# EAGLE library part 1X7 (library LARS_409_CONNECTORS)
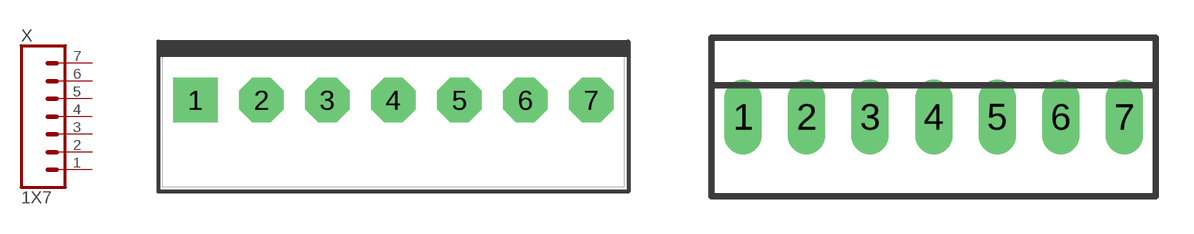
[diagram p1: symbol with the pads of JST-B7P-VH; footprints JST-B7P-VH, MOLEX-07]

Designator prefix X

## 1X7B7P-VH  [JST-B7P-VH]
1  1  pas
2  2  pas
3  3  pas
4  4  pas
5  5  pas
6  6  pas
7  7  pas

## 1X7MOLEX-07  [MOLEX-07]
Pads as for JST-B7P-VH

## 1X7JST-XH-07  [JST-XH-07]
Pads as for JST-B7P-VH

## 1X7WF-2  [WF-7]
P$1  1  pas
P$2  2  pas
P$3  3  pas
P$4  4  pas
P$5  5  pas
P$6  6  pas
P$7  7  pas

## 1X7DUPON  [1X07DUPON]
Pads as for JST-B7P-VH

## 1X7PLS2-7  [PLS2-7]
Pads as for WF-7

## 1X7FFC  [FFC-1MM_7]
Pads as for JST-B7P-VH

## Footprint JST-B7P-VH (pad centres in mm)
HEADER
drill 1.778 square: 1 -11.88,0
drill 1.778 octagon: 2 -7.92,0; 3 -3.96,0; 4 0,0; 5 3.96,0; 6 7.92,0; 7 11.88,0

## Footprint MOLEX-07 (pad centres in mm)
KK® 254 Solid Header, Vertical, with Friction Lock, 7 Circuits, Tin (Sn) Plating Datasheet <http://www.molex.com/pdm_docs/sd/022232071_sd.pdf>
drill 1 long: 1 -7.62,0; 2 -5.08,0; 3 -2.54,0; 4 0,0; 5 2.54,0; 6 5.08,0; 7 7.62,0

## Footprint JST-XH-07 (pad centres in mm)
JST XH Connector Long Pads (Package) Wire to board connector. Pitch: 2,54 mm, (0.100") Number of pins: 7 Created by Rembrandt Electronics www.rembrandtelectronics.com
drill 1.016 long: 1 -7.62,0; 2 -5.08,0; 3 -2.54,0; 4 0,0; 5 2.54,0; 6 5.08,0; 7 7.62,0

## Footprint WF-7 (pad centres in mm)
drill 0.8 pad 1.8: P$1 -7.62,0; P$2 -5.08,0; P$3 -2.54,0; P$4 0,0; P$5 2.54,0; P$6 4.94,0; P$7 7.48,0

## Footprint 1X07DUPON (pad centres in mm)
Single-row, 7-pin Pin Header (Male) Straight, 2.54 mm (0.10 in) col pitch, 5.84 mm mating length, 17.78 X 2.58 X 8.38 mm body Single-row (1X7), 7-pin Pin Header (Male) Straight package with 2.54 mm (0.10 in) col pitch, 0.64 mm lead width, 3.00 mm tail length and 5.84 mm mating length with overall size 17.78 X 2.58 X 8.38 mm, pin pattern - clockwise from top left
drill 1.016 pad 1.88: 1 0,0; 2 2.54,0; 3 5.08,0; 4 7.62,0; 5 10.16,0; 6 12.7,0; 7 15.24,0

## Footprint PLS2-7 (pad centres in mm)
drill 0.9 pad 1.676: P$1 -4,0; P$2 -2,0; P$3 0,0; P$4 2,0; P$5 4,0; P$6 6,0; P$7 8,0

## Footprint FFC-1MM_7 (pad centres in mm)
smd 0.7 x 3: 1 -3,0; 2 -2,0; 3 -1,0; 4 0,0; 5 1,0; 6 2,0; 7 3,0